# Altium schematic symbol library DIODE,TVS,5V,SMA,BIDIR.Schlib: 1 symbol
Pins are listed as number, name and electrical type; pins without a type are passive.

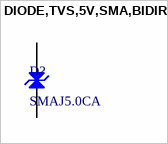
[diagram p0: symbol DIODE,TVS,5V,SMA,BIDIR]

## DIODE,TVS,5V,SMA,BIDIR
designator D?, comment SMAJ5.0CA
9.2V Clamp 43.5A Ipp Tvs Diode Surface Mount DO-214AC (SMA)
pins: 1 K, 2 A